# EAGLE library part ARUDUINO_UNO (library aruduinos)
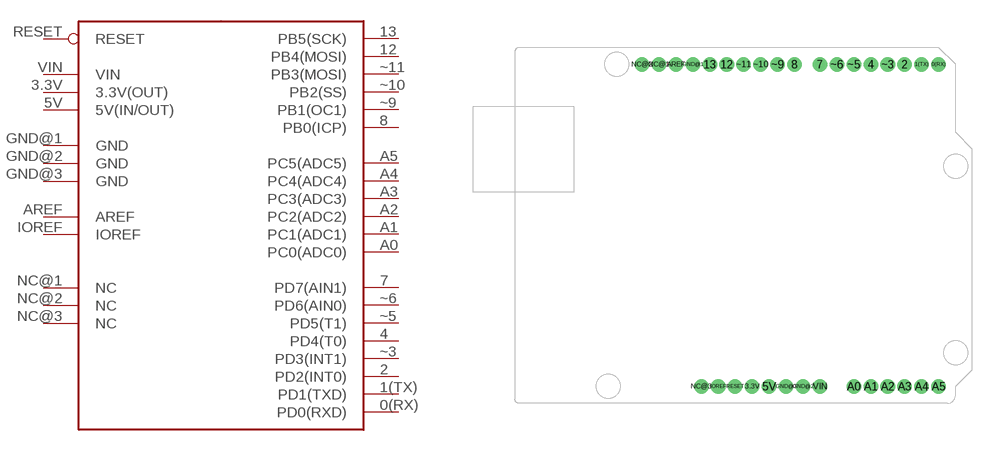
[diagram p3: symbol with the pads of ARDUINO_UNO; footprint ARDUINO_UNO]

Designator prefix -

## ARUDUINO_UNO  [ARDUINO_UNO]
0(RX)  PD0(RXD)
1(TX)  PD1(TXD)
2  PD2(INT0)
3.3V  3.3V(OUT)
4  PD4(T0)
5V  5V(IN/OUT)
7  PD7(AIN1)
8  PB0(ICP)
12  PB4(MOSI)
13  PB5(SCK)
A0  PC0(ADC0)
A1  PC1(ADC1)
A2  PC2(ADC2)
A3  PC3(ADC3)
A4  PC4(ADC4)
A5  PC5(ADC5)
AREF  AREF
GND@1  GND
GND@2  GND
GND@3  GND
IOREF  IOREF
NC@1  NC
NC@2  NC
NC@3  NC
RESET  RESET
VIN  VIN
~3  PD3(INT1)
~5  PD5(T1)
~6  PD6(AIN0)
~9  PB1(OC1)
~10  PB2(SS)
~11  PB3(MOSI)

## Footprint ARDUINO_UNO (pad centres in mm)
drill 1.3 pad 2.184: 0(RX) 29.21,26.67; 1(TX) 26.67,26.67; 2 24.13,26.67; 3.3V 1.27,-21.59; 4 19.05,26.67; 5V 3.81,-21.59; 7 11.43,26.67; 8 7.62,26.67; 12 -2.54,26.67; 13 -5.08,26.67; A0 16.51,-21.59; A1 19.05,-21.59; A2 21.59,-21.59; A3 24.13,-21.59; A4 26.67,-21.59; A5 29.21,-21.59; AREF -10.16,26.67; GND@1 -7.62,26.67; GND@2 8.89,-21.59; GND@3 6.35,-21.59; IOREF -3.81,-21.59; NC@1 -12.7,26.67; NC@2 -15.24,26.67; NC@3 -6.35,-21.59; RESET -1.27,-21.59; VIN 11.43,-21.59; ~3 21.59,26.67; ~5 16.51,26.67; ~6 13.97,26.67; ~9 5.08,26.67; ~10 2.54,26.67; ~11 0,26.67